# Altium schematic symbol library Induct.SchLib: 125 symbols
Pins are listed as number, name and electrical type; pins without a type are passive.

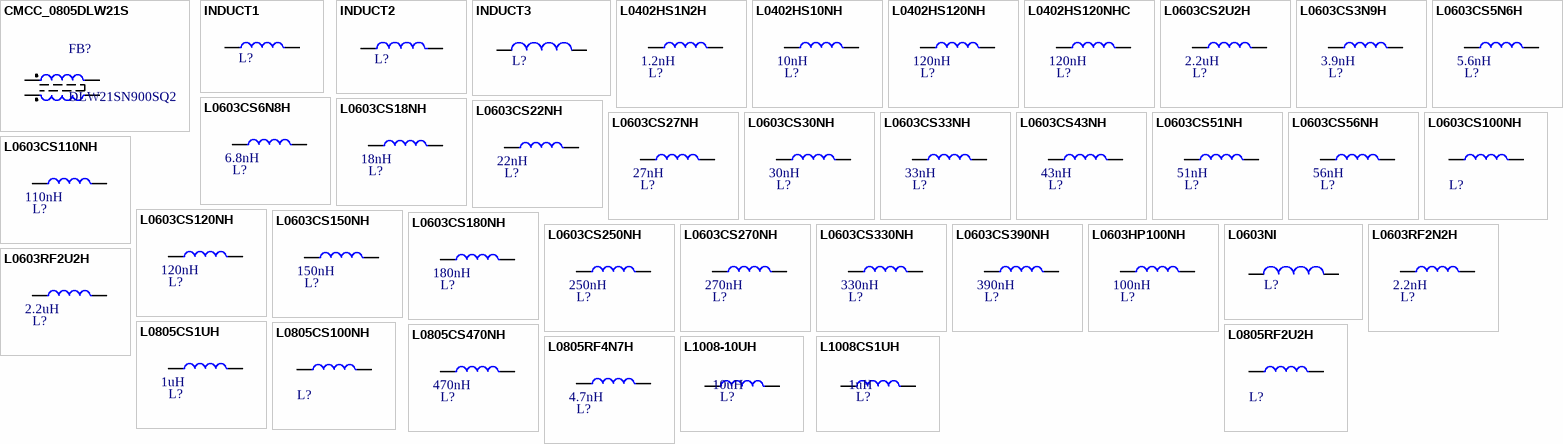
[diagram p0: symbols CMCC_0805DLW21S to L1008CS1UH]

## CMCC_0805DLW21S
designator FB?, comment DLW21SN900SQ2
Chip Common Mode Choke Coils 0805; Manufacturer: Murata, Farnell; Manufacturer No: DLW21SN900SQ2, 1515594; Comment2: 90R 330mA 50V 10MR; Sort: 342; Tech: SMDR; Package: Chip Coil 0805; Price: 0
signal-integrity model Model Name (Model Description)
footprint CCMCC0805 (Chip Common Mode Choke Coil 0805)
pins: 1, 2, 3, 4

## INDUCT1
designator L?, comment 10uH  (value not drawn)
General purpose inductor; Sort: 310; Tech: SMDR; Manufacturer: *; Manufacturer No: *; Price: 0
signal-integrity model Model Name (Model Description)
footprint LC0402-1 (Chip inductor 0402)
footprint LC0603-1 (Chip  inductor  0603 (1608))
footprint LC0805-1 (Chip inductor  0805)
pins: 1, 2

## INDUCT2
designator L?, comment 10uH  (value not drawn)
General purpose inductor; Sort: 310; Tech: SMDR; Manufacturer: *; Manufacturer No: *; Comment2: 10uH; Price: 0
signal-integrity model Model Name (Model Description)
footprint RC0805-1 (Chip upor 0805)
pins: 1, 2

## INDUCT3
designator L?, comment 10uH  (value not drawn)
General purpose inductor; Sort: 310; Tech: SMDR; Manufacturer: *; Manufacturer No: *; Comment2: 10uH; Price: 0
signal-integrity model Model Name (Model Description)
footprint RC0805-1 (Chip upor 0805)
pins: 1, 2

## L0402HS1N2H
designator L?, comment 1.2nH
RF chip inductor; Manufacturer: Murata; Manufacturer No: LQG15HS1N2S02; Comment2: 25% 300mA 0.09R; Sort: 310; Tech: SMDR; Package: Chip Inductor 0402; Price: 0
signal-integrity model Model Name (Model Description)
footprint LC0402-1 (Chip inductor 0402)
footprint LC0402RF1 (Chip inductor 0402 RF pad)
pins: 1, 2

## L0402HS10NH
designator L?, comment 10nH
RF chip inductor; Manufacturer: Murata; Manufacturer No: LQG15HS10NJ02; Comment2: 5% 300mA 0.26R Q8; Sort: 310; Tech: SMDR; Package: Chip Inductor 0402; Price: 0
signal-integrity model Model Name (Model Description)
footprint LC0402-1 (Chip inductor 0402)
footprint LC0402RF1 (Chip inductor 0402 RF pad)
pins: 1, 2

## L0402HS120NH
designator L?, comment 120nH
RF chip inductor; Manufacturer: Murata; Manufacturer No: LQG15HSR12JO2; Comment2: 5% 150mA 1.3R; Sort: 310; Tech: SMDR; Package: Chip Inductor 0402; Price: 0
signal-integrity model Model Name (Model Description)
footprint LC0402-1 (Chip inductor 0402)
footprint LC0402RF1 (Chip inductor 0402 RF pad)
pins: 1, 2

## L0402HS120NHC
designator L?, comment 120nH
RF chip inductor; Manufacturer: Coilcraft; Manufacturer No: 0402CS-R12X_L_; Comment2: 5% 50mA 2.2R 1.9GHz SRF; Sort: 310; Tech: SMDR; Package: Chip Inductor 0402; Price: 0
signal-integrity model Model Name (Model Description)
footprint LC0402-1 (Chip inductor 0402)
footprint LC0402RF1 (Chip inductor 0402 RF pad)
pins: 1, 2

## L0603CS2U2H
designator L?, comment 2.2uH
RF inductor 0603; Manufacturer: Murata; Manufacturer No: LQM18FN2R2M00B; Comment2: 5% 120mA 0.4R; Sort: 310; Tech: SMDR; Package: Chip Inductor 0603; Price: 0
signal-integrity model Model Name (Model Description)
footprint LC0603-1 (Chip  inductor  0603 (1608))
pins: 1, 2

## L0603CS3N9H
designator L?, comment 3.9nH
RF chip inductor; Manufacturer: Coilcraft; Manufacturer No: 0603CS-3N9XJLU; Comment2: 5% 700mA 0.08R; Sort: 310; Tech: SMDR; Package: Chip Inductor 0603; Price: 0
signal-integrity model Model Name (Model Description)
footprint LC0603-1 (Chip  inductor  0603 (1608))
pins: 1, 2

## L0603CS5N6H
designator L?, comment 5.6nH
RF chip inductor; Manufacturer: Coilcraft; Manufacturer No: 0603CS-5N6XJLU; Comment2: 5% 700mA 0.12R; Sort: 310; Tech: SMDR; Package: Chip Inductor 0603; Price: 0
signal-integrity model Model Name (Model Description)
footprint LC0603-1 (Chip  inductor  0603 (1608))
pins: 1, 2

## L0603CS6N8H
designator L?, comment 6.8nH
RF chip inductor; Manufacturer: Coilcraft; Manufacturer No: 0603CS-6N8XJLU; Comment2: 5% 700mA 0.17R; Sort: 310; Tech: SMDR; Package: Chip Inductor 0603; Price: 0
signal-integrity model Model Name (Model Description)
footprint LC0603-1 (Chip  inductor  0603 (1608))
pins: 1, 2

## L0603CS18NH
designator L?, comment 18nH
RF chip inductor; Manufacturer: Coilcraft; Manufacturer No: 0603CS-18NXJLU; Comment2: 5% 700mA 0.17R; Sort: 310; Tech: SMDR; Package: Chip Inductor 0603; Price: 0
signal-integrity model Model Name (Model Description)
footprint LC0603-1 (Chip  inductor  0603 (1608))
pins: 1, 2

## L0603CS22NH
designator L?, comment 22nH
RF inductor 0603; Manufacturer: Coilcraft; Manufacturer No: 0603CS-22NXJLU; Comment2: 5% 700mA 0.19R; Sort: 310; Tech: SMDR; Package: Chip Inductor 0603; Price: 0
signal-integrity model Model Name (Model Description)
footprint LC0603-1 (Chip  inductor  0603 (1608))
pins: 1, 2

## L0603CS27NH
designator L?, comment 27nH
RF inductor 0603; Manufacturer: Coilcraft; Manufacturer No: 0603CS-27NXJLU; Comment2: 5% 600mA 0.22R; Sort: 310; Tech: SMDR; Package: Chip Inductor 0603; Price: 0
signal-integrity model Model Name (Model Description)
footprint LC0603-1 (Chip  inductor  0603 (1608))
pins: 1, 2

## L0603CS30NH
designator L?, comment 30nH
RF inductor 0603; Manufacturer: Coilcraft; Manufacturer No: 0603CS-30NXJLU; Comment2: 5% 600mA 0.22R; Sort: 310; Tech: SMDR; Package: Chip Inductor 0603; Price: 0
signal-integrity model Model Name (Model Description)
footprint LC0603-1 (Chip  inductor  0603 (1608))
pins: 1, 2

## L0603CS33NH
designator L?, comment 33nH
RF inductor 0603; Manufacturer: Coilcraft; Manufacturer No: 0603CS-33NXJLU; Comment2: 5% 600mA 0.22R; Sort: 310; Tech: SMDR; Package: Chip Inductor 0603; Price: 0
signal-integrity model Model Name (Model Description)
footprint LC0603-1 (Chip  inductor  0603 (1608))
pins: 1, 2

## L0603CS43NH
designator L?, comment 43nH
RF inductor 0603; Manufacturer: Coilcraft; Manufacturer No: 0603CS-43NXJLU; Comment2: 5% 600mA 0.28R; Sort: 310; Tech: SMDR; Package: Chip Inductor 0603; Price: 0
signal-integrity model Model Name (Model Description)
footprint LC0603-1 (Chip  inductor  0603 (1608))
pins: 1, 2

## L0603CS51NH
designator L?, comment 51nH
RF inductor 0603; Manufacturer: Coilcraft; Manufacturer No: 0603CS-51NXJLU; Comment2: 5% 600mA 0.22R; Sort: 310; Tech: SMDR; Package: Chip Inductor 0603; Price: 0
signal-integrity model Model Name (Model Description)
footprint LC0603-1 (Chip  inductor  0603 (1608))
pins: 1, 2

## L0603CS56NH
designator L?, comment 56nH
RF inductor 0603; Manufacturer: Coilcraft; Manufacturer No: 0603CS-56NXJLU; Comment2: 5% 600mA 0.31R; Sort: 310; Tech: SMDR; Package: Chip Inductor 0603; Price: 0
signal-integrity model Model Name (Model Description)
footprint LC0603-1 (Chip  inductor  0603 (1608))
pins: 1, 2

## L0603CS100NH
designator L?, comment 100nH  (value not drawn)
RF inductor 0603; Manufacturer: Wurth Elektronik; Manufacturer No: 7447962; Comment2: 50mA 0.5R; Sort: 310; Tech: SMDR; Package: Chip Inductor 0603; Price: 0
signal-integrity model Model Name (Model Description)
footprint RC0603-1 (Chip upor 0603)
pins: 1, 2

## L0603CS110NH
designator L?, comment 110nH
RF inductor 0603; Manufacturer: Coilcraft; Manufacturer No: 0603CS-R11XJLU; Comment2: 5% 300mA 0.61R; Sort: 310; Tech: SMDR; Package: Chip Inductor 0603; Price: 0
signal-integrity model Model Name (Model Description)
footprint LC0603-1 (Chip  inductor  0603 (1608))
footprint RC0603-1
pins: 1, 2

## L0603CS120NH
designator L?, comment 120nH
RF inductor 0603; Manufacturer: Coilcraft; Manufacturer No: 0603CS-R12XJLU; Comment2: 5% 300mA 0.65R; Sort: 310; Tech: SMDR; Package: Chip Inductor 0603; Price: 0
signal-integrity model Model Name (Model Description)
footprint LC0603-1 (Chip  inductor  0603 (1608))
footprint RC0603-1
pins: 1, 2

## L0603CS150NH
designator L?, comment 150nH
RF inductor 0603; Manufacturer: Coilcraft; Manufacturer No: 0603CS-R15XJLU; Comment2: 5% 280mA 0.92R; Sort: 310; Tech: SMDR; Package: Chip Inductor 0603; Price: 0
signal-integrity model Model Name (Model Description)
footprint LC0603-1 (Chip  inductor  0603 (1608))
footprint RC0603-1
pins: 1, 2

## L0603CS180NH
designator L?, comment 180nH
RF inductor 0603; Manufacturer: Coilcraft; Manufacturer No: 0603CS-R18XJLU; Comment2: 5% 240mA 1.25R; Sort: 310; Tech: SMDR; Package: Chip Inductor 0603; Price: 0
signal-integrity model Model Name (Model Description)
footprint LC0603-1 (Chip  inductor  0603 (1608))
pins: 1, 2

## L0603CS250NH
designator L?, comment 250nH
RF inductor 0603; Manufacturer: Coilcraft; Manufacturer No: 0603CS-R25XJLU; Comment2: 5% 120mA 3.55R; Sort: 310; Tech: SMDR; Package: Chip Inductor 0603; Price: 0
signal-integrity model Model Name (Model Description)
footprint LC0603-1 (Chip  inductor  0603 (1608))
pins: 1, 2

## L0603CS270NH
designator L?, comment 270nH
RF inductor 0603; Manufacturer: Coilcraft; Manufacturer No: 0603CS-R27XJLU; Comment2: 5% 170mA 2.3R; Sort: 310; Tech: SMDR; Package: Chip Inductor 0603; Price: 0
signal-integrity model Model Name (Model Description)
footprint LC0603-1 (Chip  inductor  0603 (1608))
pins: 1, 2

## L0603CS330NH
designator L?, comment 330nH
RF inductor 0603; Manufacturer: Coilcraft; Manufacturer No: 0603CS-R33XJLU; Comment2: 5% 100mA 3.9R; Sort: 310; Tech: SMDR; Package: Chip Inductor 0603; Price: 0
signal-integrity model Model Name (Model Description)
footprint LC0603-1 (Chip  inductor  0603 (1608))
pins: 1, 2

## L0603CS390NH
designator L?, comment 390nH
RF inductor 0603; Manufacturer: Coilcraft; Manufacturer No: 0603CS-R39XJLU; Comment2: 5% 100mA 4.4R; Sort: 310; Tech: SMDR; Package: Chip Inductor 0603; Price: 0
signal-integrity model Model Name (Model Description)
footprint LC0603-1 (Chip  inductor  0603 (1608))
pins: 1, 2

## L0603HP100NH
designator L?, comment 100nH
RF inductor 0603; Manufacturer: Coilcraft; Manufacturer No: 0603HP-R10X_L_; Comment2: 5.2% 470mA 0.54R; Sort: 310; Tech: SMDR; Package: Chip Inductor 0603; Price: 0
signal-integrity model Model Name (Model Description)
footprint RC0603-2 (Chip inductor 0603)
pins: 1, 2

## L0603NI
designator L?, comment NI  (value not drawn)
RF inductor 0603; Manufacturer: Coilcraft; Manufacturer No: 0603CS-??; Sort: 310; Tech: SMDR; Package: Chip Inductor 0603; Price: 0
signal-integrity model Model Name (Model Description)
footprint LC0603-1 (Chip  inductor  0603 (1608))
pins: 1, 2

## L0603RF2N2H
designator L?, comment 2.2nH
RF chip inductor; Manufacturer: Murata, Farnell; Manufacturer No: LQG18HN2N2S00D,  1515384; Comment2: 13% 500mA 0.1R; Sort: 310; Tech: SMDR; Package: Chip Inductor 0603; Price: 0
signal-integrity model Model Name (Model Description)
footprint LC0603-1 (Chip  inductor  0603 (1608))
pins: 1, 2

## L0603RF2U2H
designator L?, comment 2.2uH
RF inductor 0603; Manufacturer: Murata; Manufacturer No: LQM18FN2R2M00B; Comment2: 5% 120mA 0.4R; Sort: 310; Tech: SMDR; Package: Chip Inductor 0603; Price: 0
signal-integrity model Model Name (Model Description)
footprint LC0603-1 (Chip  inductor  0603 (1608))
pins: 1, 2

## L0805CS1UH
designator L?, comment 1uH
RF inductor 0805; Manufacturer: Wurth Elektronik; Manufacturer No: 7447905; Comment2: 50mA 0.4R; Sort: 310; Tech: SMDR; Package: Chip Inductor 0805; Price: 0
signal-integrity model Model Name (Model Description)
footprint LC0805-1 (Chip inductor  0805)
pins: 1, 2

## L0805CS100NH
designator L?, comment 100nH  (value not drawn)
RF inductor 0805; Manufacturer: Wurth Elektronik; Manufacturer No: 74479021; Comment2: 250mA 0.2R; Sort: 310; Tech: SMDR; Package: Chip Inductor 0805; Price: 0
signal-integrity model Model Name (Model Description)
footprint LC0805-1 (Chip inductor  0805)
pins: 1, 2

## L0805CS470NH
designator L?, comment 470nH
RF inductor 0805; Manufacturer: Wurth Elektronik; Manufacturer No: 74479032; Comment2: 200mA 0.6R; Sort: 310; Tech: SMDR; Package: Chip Inductor 0805; Price: 0
signal-integrity model Model Name (Model Description)
footprint LC0805-1 (Chip inductor  0805)
pins: 1, 2

## L0805RF2U2H
designator L?, comment 2.2uH  (value not drawn)
RF chip inductor; Manufacturer: Kemet, Farnell; Manufacturer No: L0805C2R2MDWIT,  1457856; Comment2: 20% 0.64A 0.33R; Sort: 310; Tech: SMDR; Package: Chip Inductor 0805; Price: 0
signal-integrity model Model Name (Model Description)
footprint LC0805-1 (Chip inductor  0805)
pins: 1, 2

## L0805RF4N7H
designator L?, comment 4.7nH
RF chip inductor; Manufacturer: AVX, Farnell; Manufacturer No: L08054R7DESTR,  1100444; Comment2: 10% 1.5A 0.1R; Sort: 310; Tech: SMDR; Package: Chip Inductor 0805; Price: 0
signal-integrity model Model Name (Model Description)
footprint LC0805-1 (Chip inductor  0805)
pins: 1, 2

## L1008-10UH
designator L?, comment 10uH
RF chip inductor; Manufacturer: Panasonic, Farnell; Manufacturer No: ELJFC100JF, 1198424; Comment2: 5% 80mA 3R5  Q25; Sort: 310; Tech: SMDR; Package: Chip Inductor 1008; Price: 0
signal-integrity model Model Name (Model Description)
footprint LC1008-2 (Chip inductor  1008 2.84x2.73mm)
pins: 1, 2

## L1008CS1UH
designator L?, comment 1uH
RF chip inductor; Manufacturer: Coilcraft; Manufacturer No: 1008CS-102XJLB; Comment2: 5% 370mA 1.75R Q35; Sort: 310; Tech: SMDR; Package: Chip Inductor 1008; Price: 0
signal-integrity model Model Name (Model Description)
footprint LC1008-2 (Chip inductor  1008 2.84x2.73mm)
pins: 1, 2

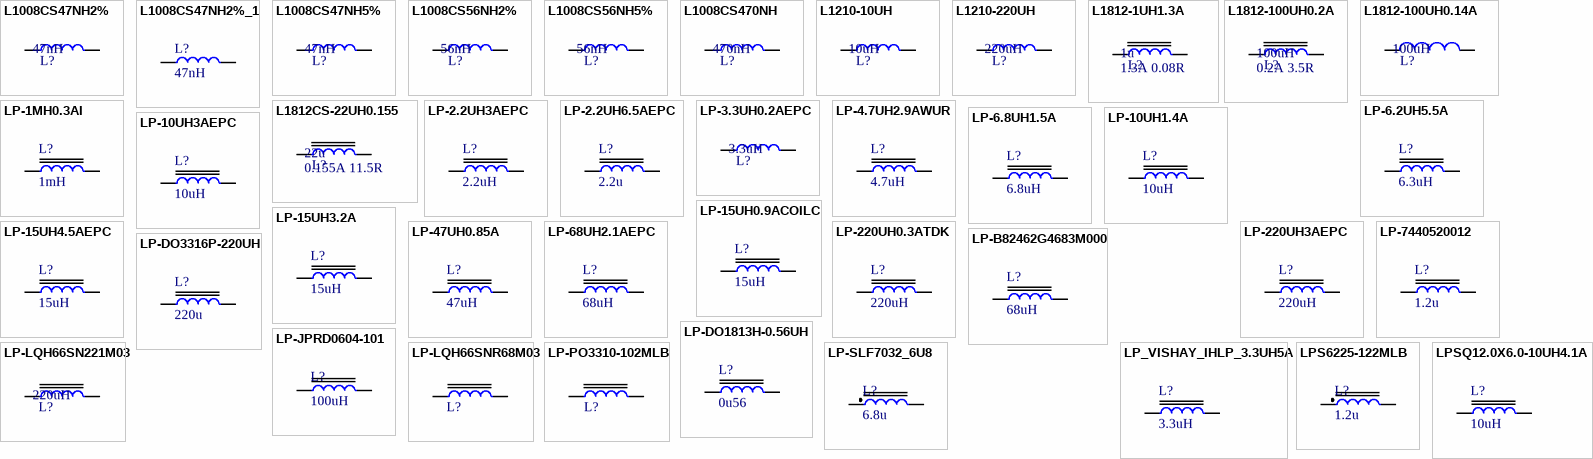
[diagram p1: symbols L1008CS47NH2% to LPSQ12.0X6.0-10UH4.1A]

## L1008CS47NH2%
designator L?, comment 47nH
RF inductor 1008; Manufacturer: Coilcraft; Manufacturer No: 1008CS-470XGLB; Comment2: 2% 1A 0.16R; Sort: 310; Tech: SMDR; Package: Chip Inductor 1008; Price: 0
signal-integrity model Model Name (Model Description)
footprint LC1008-2 (Chip inductor  1008 2.84x2.73mm)
pins: 1, 2

## L1008CS47NH2%_1
designator L?, comment 47nH
RF inductor 1008; Manufacturer: Coilcraft; Manufacturer No: 1008CS-470XGLB; Comment2: 2% 1A 0.16R; Sort: 310; Tech: SMDR; Package: Chip Inductor 1008; Price: 0
signal-integrity model Model Name (Model Description)
footprint LC1008-2 (Chip inductor  1008 2.84x2.73mm)
pins: 1, 2

## L1008CS47NH5%
designator L?, comment 47nH
RF inductor 1008; Manufacturer: Coilcraft; Manufacturer No: 1008CS-470XJLB; Comment2: 5% 1A 0.16R; Sort: 310; Tech: SMDR; Package: Chip Inductor 1008; Price: 0
signal-integrity model Model Name (Model Description)
footprint LC1008-2 (Chip inductor  1008 2.84x2.73mm)
pins: 1, 2

## L1008CS56NH2%
designator L?, comment 56nH
RF inductor 1008; Manufacturer: Coilcraft; Manufacturer No: 1008CS-560XGLB; Comment2: 2% 1A 0.18R; Sort: 310; Tech: SMDR; Package: Chip Inductor 1008; Price: 0
signal-integrity model Model Name (Model Description)
footprint LC1008-2 (Chip inductor  1008 2.84x2.73mm)
pins: 1, 2

## L1008CS56NH5%
designator L?, comment 56nH
RF inductor 1008; Manufacturer: Coilcraft; Manufacturer No: 1008CS-560XJLB; Comment2: 5% 1A 0.18R; Sort: 310; Tech: SMDR; Package: Chip Inductor 1008; Price: 0
signal-integrity model Model Name (Model Description)
footprint LC1008-2 (Chip inductor  1008 2.84x2.73mm)
pins: 1, 2

## L1008CS470NH
designator L?, comment 470nH
RF inductor 1008; Manufacturer: Coilcraft; Manufacturer No: 1008CS-471XJLB; Comment2: 5% 470mA 1.19R; Sort: 310; Tech: SMDR; Package: Chip Inductor 1008; Price: 0
signal-integrity model Model Name (Model Description)
footprint LC1008-2 (Chip inductor  1008 2.84x2.73mm)
pins: 1, 2

## L1210-10UH
designator L?, comment 10uH
RF chip inductor; Manufacturer: Murata, Farnell; Manufacturer No: LQH32CN100K33, 9522204; Comment2: 10% 450mA 0R3 Q35; Sort: 310; Tech: SMDR; Package: Chip Inductor 1008; Price: 0
signal-integrity model Model Name (Model Description)
footprint LP1210-1 (Chip capacitor 1210 (3225))
pins: 1, 2

## L1210-220UH
designator L?, comment 220uH
RF chip inductor; Manufacturer: Murata, Farnell; Manufacturer No: LQH32CN221K23, 9522239; Comment2: 10% 70mA 8R4; Sort: 310; Tech: SMDR; Package: Chip Inductor 1008; Price: 0
signal-integrity model Model Name (Model Description)
footprint LP1210-1 (Chip capacitor 1210 (3225))
pins: 1, 2

## L1812-1UH1.3A
designator L?, comment 1u  Comment2: 1.3A 0.08R
High current inductor SMD 1812 4.5x3.2x3,2mm; Manufacturer: Epcos, Farnell; Manufacturer No: B82432T1102K, 4826681; Sort: 310; Tech: SMDR; Package: Chip Inductor 1812 H3,2mm; Price: 0
signal-integrity model Model Name (Model Description)
footprint LC1812-32 (Chip capacitor 1812 (4532) 4.5x3.2x3.2mm)
pins: 1, 2

## L1812-100UH0.2A
designator L?, comment 100uH  Comment2: 0.2A 3.5R
High current inductor SMD 1812 4.5x3.2x3,2mm; Manufacturer: Epcos, Farnell; Manufacturer No: B82432T1104K, 8808503; Sort: 310; Tech: SMDR; Package: Chip Inductor 1812 H3,2mm; Price: 0
signal-integrity model Model Name (Model Description)
footprint LC1812-32 (Chip capacitor 1812 (4532) 4.5x3.2x3.2mm)
pins: 1, 2

## L1812-100UH0.14A
designator L?, comment 100uH
General purpose inductor SMD 1812; Manufacturer: BURKLIN; Manufacturer No: 76D9258; Comment2: 0.145A 4.7R; Sort: 310; Tech: SMDR; Price: 0
signal-integrity model Model Name (Model Description)
footprint LC1812-1 (Chip capacitor 1812 (4532))
pins: 1, 2

## L1812CS-22UH0.155
designator L?, comment 22u  Comment2: 0.155A 11.5R
General Purpose Inductor SMD 1812 4.5x3.2x3,2mm; Manufacturer: Coilcraft; Manufacturer No: 1812CS-223X_LB; Sort: 310; Tech: SMDR; Package: Chip Inductor 1812 H3,2mm; Price: 0
signal-integrity model Model Name (Model Description)
footprint LC1812-CS (Chip Inductor, 2-Leads, Body 4,9x3,8mm, IPC Medium Density)
pins: 1, 2

## LP-1MH0.3AI
designator L?, comment 1mH
Power inductor; Manufacturer: Wuerth Elektronik; Manufacturer No: 744772102; Comment2: 0.3A  2.9R; Sort: 320; Tech: SMDR; Package: Pow Inductor; Price: 0
signal-integrity model Model Name (Model Description)
footprint LP1MH0.3AV
pins: 1, 2

## LP-2.2UH3AEPC
designator L?, comment 2.2uH
Power inductor 7.3x7.3x4.5mm; Manufacturer: Epcos; Manufacturer No: B82472G6222M; Comment2: 3A; Sort: 320; Tech: SMDR; Price: 0
signal-integrity model Model Name (Model Description)
footprint L7.3X7.3X4.5 (SMD inductor 7.3x7.3x4.5mm shielded)
pins: 1, 2

## LP-2.2UH6.5AEPC
designator L?, comment 2.2u
Power inductor 10x10mm; Manufacturer: Epcos, Farnell; Manufacturer No: B82464-G4222-M, 7429401; Comment2: 6.5A 0.01R; Sort: 320; Tech: SMDR; Package: Inductor Power 10x10mm; Price: 0
signal-integrity model Model Name (Model Description)
footprint L10x10x4.8 (Power inductor 10x10x4.8mm EPCOS)
pins: 1, 2

## LP-3.3UH0.2AEPC
designator L?, comment 3.3uH
RF chip inductor; Manufacturer: Epcos, Farnell; Manufacturer No: B82422A1332+100, 1644343; Comment2: 10% 200mA 1R2 Q27; Sort: 310; Tech: SMDR; Package: Chip Inductor 1008; Price: 0
signal-integrity model Model Name (Model Description)
footprint LP1210-1 (Chip capacitor 1210 (3225))
pins: 1, 2

## LP-4.7UH2.9AWUR
designator L?, comment 4.7uH
Power inductor 7.3x7.3x3.2mm; Manufacturer: Wurth, Farnell; Manufacturer No: 7447789004, 1635969; Comment2: 2.9A 0.033R; Sort: 320; Tech: SMDR; Price: 0
footprint L7.3X7.3X3.2 (SMD inductor 7.3x7.3x3.2mm shielded)
pins: 1, 2

## LP-6.2UH5.5A
designator L?, comment 6.3uH
Power inductor 10x10x3.8mm; Manufacturer: Wurth Elektronik; Manufacturer No: 7447797620; Comment2: 5.5A 25.mR 6.2uH; Sort: 320; Tech: SMDR; Price: 0
signal-integrity model Model Name (Model Description)
footprint LP10X10X3.2 (Power inductor 10x10x3.2mm)
pins: 1, 2

## LP-6.8UH1.5A
designator L?, comment 6.8uH
Power inductor 4.8x4.8x1.8mm WE-TPC; Manufacturer: Wurth Elektronik; Manufacturer No: 744042006; Comment2: 1.5A 95mR 6.8uH; Sort: 320; Tech: SMDR; Price: 0
signal-integrity model Model Name (Model Description)
footprint LP4.8X4.8X1.8 (SMD Power inductor 4.8x4.8x1.8mm shielded)
pins: 1, 2

## LP-10UH1.4A
designator L?, comment 10uH
Power inductor WE-TPC type LH; Manufacturer: Wurth Elektronik; Manufacturer No: 744053100; Comment2: 0.07Rdc 1.4A Isat 10uH; Sort: 320; Tech: SMDR; Package: WE-TPC-LH; Price: 0
signal-integrity model Model Name (Model Description)
footprint Model Name (Footprint not found)
footprint LP5.8X5.8X2.8 (SMD Power inductor 5.8x5.8x2.8mm shielded)
pins: 1, 2

## LP-10UH3AEPC
designator L?, comment 10uH
Power inductor 7.3x7.3x4.5mm; Manufacturer: Epcos; Manufacturer No: B82472G6103M000; Comment2: 1.4A 0.053R; Sort: 320; Tech: SMDR; Price: 0
signal-integrity model Model Name (Model Description)
footprint L7.3X7.3X4.5 (SMD inductor 7.3x7.3x4.5mm shielded)
pins: 1, 2

## LP-15UH0.9ACOILC
designator L?, comment 15uH
Power inductor DO1608; Manufacturer: Coilcraft; Manufacturer No: DO1608C-153ML; Comment2: 0.9A; Sort: 320; Tech: SMDR; Package: DO1608; Price: 0
signal-integrity model Model Name (Model Description)
footprint Model Name (Footprint not found)
footprint LDO1608
pins: 1, 2

## LP-15UH3.2A
designator L?, comment 15uH
Power inductor 10x10x3.8mm; Manufacturer: Wurth Elektronik; Manufacturer No: 744066150; Comment2: 3.2A 40mR 15uH; Sort: 320; Tech: SMDR; Price: 0
signal-integrity model Model Name (Model Description)
footprint LP10X10X3.2 (Power inductor 10x10x3.2mm)
pins: 1, 2

## LP-15UH4.5AEPC
designator L?, comment 15uH
Power inductor 12.8x12.8x8mm; Manufacturer: Epcos; Manufacturer No: B82477G4153M; Comment2: 4.5A; Sort: 320; Tech: SMDR; Price: 0
signal-integrity model Model Name (Model Description)
footprint L12.8X12.8X8 (Power inductor 12.8x12.8x8mm EPCOS)
pins: 1, 2

## LP-47UH0.85A
designator L?, comment 47uH
Power inductor 7.3x7.3x3.2mm WE-PD; Manufacturer: Wurth Elektronik; Manufacturer No: 744778147; Comment2: 0.85A  0.315R; Sort: 320; Tech: SMDR; Package: 7.3x7.3x3.2mm; Price: 0
signal-integrity model Model Name (Model Description)
footprint LP7.3X7.3X3.2 (SMD Power inductor 7.3x7.3x3.2mm shielded)
pins: 1, 2

## LP-68UH2.1AEPC
designator L?, comment 68uH
Power inductor 12.8x12.8x8mm; Manufacturer: Epcos; Manufacturer No: B82477G4683M; Comment2: 2.1A  0.12Ohm; Sort: 320; Tech: SMDR; Package: 12.8x12.8x8mm; Price: 0
signal-integrity model Model Name (Model Description)
footprint L12.8X12.8X8 (Power inductor 12.8x12.8x8mm EPCOS)
pins: 1, 2

## LP-220UH0.3ATDK
designator L?, comment 220uH
Power inductor 7.3x7.3x4.5mm; Manufacturer: TDK; Manufacturer No: SLF7045T-221MR33-PF; Comment2: 0.33A 0.52R; Sort: 320; Tech: SMDR; Price: 0
signal-integrity model Model Name (Model Description)
footprint L7X7X4.5 (SMD inductor 7x7x4.5mm shielded)
pins: 1, 2

## LP-220UH3AEPC
designator L?, comment 220uH
Power inductor 7.3x7.3x4.5mm; Manufacturer: Epcos; Manufacturer No: B82472G6224M000; Comment2: 0.36A 0.88R; Sort: 320; Tech: SMDR; Price: 0
signal-integrity model Model Name (Model Description)
footprint L7.3X7.3X4.5 (SMD inductor 7.3x7.3x4.5mm shielded)
pins: 1, 2

## LP-7440520012
designator L?, comment 1.2u
Power inductor 5.8x5.8x1.8mm, Type L; Manufacturer: Wurth Elektronik; Manufacturer No: 7440520012; Comment2: 3A, 0.02R, 1.2u at 0.1 MHz; Sort: 320; Tech: SMDR; Package: Pow Induct 5.8x5.8x1.8mm; Price: 0
signal-integrity model Model Name (Model Description)
footprint LP5.8X5.8X1.8 (SMD Power inductor 5.8x5.8x1.8mm shielded)
pins: 1, 2

## LP-B82462G4683M000
designator L?, comment 68uH
Power inductor 6.3x6.3x3.0mm; Manufacturer: Epcos; Manufacturer No: B82462G4683M000; Comment2: 0.65A, 0.41R fl 0.1 MHz; Sort: 320; Tech: SMDR; Price: 0
signal-integrity model Model Name (Model Description)
footprint LP6.3X6.3X3.0 (SMD Power inductor 6.3x6.3x3.0mm shielded)
pins: 1, 2

## LP-DO1813H-0.56UH
designator L?, comment 0u56
Power inductor DO1813H; Manufacturer: Coilcraft; Manufacturer No: DO1813H-561ML; Comment2: 6A 0.01R; Sort: 320; Tech: SMDR; Package: Pow Inductor DO1813H; Price: 0
signal-integrity model Model Name (Model Description)
footprint LDO1813H (Power Inductor 9x6x5mm)
pins: 1, 2

## LP-DO3316P-220UH
designator L?, comment 220u
Power inductor DO3316P; Manufacturer: Coilcraft; Manufacturer No: DO3316P-224 L; Comment2: 0.8A 0.61R; Sort: 320; Tech: SMDR; Package: Pow Inductor DO3316P; Price: 0
signal-integrity model Model Name (Model Description)
footprint LDO3316 (DO3316 power inductor smd)
pins: 1, 2

## LP-JPRD0604-101
designator L?, comment 100uH
SMD power inductor shielded; Manufacturer: Jantek TW; Manufacturer No: JPRD0604-101M; Comment2: 0.65A 0.36R; Sort: 310; Tech: SMDR; Price: 0
signal-integrity model Model Name (Model Description)
footprint L-JPRD0604 (SMD inductor 6.7x6.7x4mm shielded)
pins: 1, 2

## LP-LQH66SN221M03
designator L?, comment 220uH
Inductor Large Current Size 2525; Manufacturer: Murata; Manufacturer No: LQH66SN221M03; Comment2: 0.35A 0.79Rdc 20%; Sort: 310; Tech: SMDR; Package: Inductor Chip 2525; Price: 0
signal-integrity model Model Name (Model Description)
footprint LC2525-1 (Chip capacitor 6.3x6.3x4.7mm)
footprint LC0603-1 (Chip  inductor  0603 (1608))
footprint LC0805-1 (Chip inductor  0805)
pins: 1, 2

## LP-LQH66SNR68M03
designator L?, comment 0u68  (value not drawn)
Inductor Large Current Size 2525; Manufacturer: Murata; Manufacturer No: LQH66SNR68M03; Comment2: 5.3A 0.010Rdc 20%; Sort: 310; Tech: SMDR; Package: Inductor Chip 2525; Price: 0
signal-integrity model Model Name (Model Description)
footprint LC2525-1 (Chip capacitor 6.3x6.3x4.7mm)
footprint LC0603-1 (Chip  inductor  0603 (1608))
footprint LC0805-1 (Chip inductor  0805)
pins: 1, 2

## LP-PO3310-102MLB
designator L?, comment LPO3310-102  (value not drawn)
Low profile inductor 1uH 1.6A; Manufacturer: Coilcraft; Manufacturer No: LPO3310-102MLB; Comment2: 1uH 1.6A 0.076R; Sort: 310; Tech: SMDR; Package: LPO3310; Price: 0
signal-integrity model Model Name (Model Description)
footprint LPO3310 (SMD inductor 4.1x3.3x1mm shielded)
pins: 1, 2

## LP-SLF7032_6U8
designator L?, comment 6.8u
Power inductor; Manufacturer: TDK; Manufacturer No: SLF7032T-6R8M1R6; Comment2: 1.6A 0.041R; Sort: 310; Tech: SMDR; Price: 0
signal-integrity model Model Name (Model Description)
footprint SLF7032_1 (SMD Inductor for power line)
pins: 1, 2

## LP_VISHAY_IHLP_3.3UH5A
designator L?, comment 3.3uH
Power inductor shielded 7x6.5x2.4mm IHLP; Manufacturer: Vishay, Farnell; Manufacturer No: IHLP2525BDER3R3M01, 1741356; Comment2: 5A 51mR; Sort: 320; Tech: SMDR; Package: LP 7x6.5x2.4mm; Price: 2.11
signal-integrity model Model Name (Model Description)
footprint LP7X6.6X2.4 (SMD Power inductor 7x6.5x2.4mm shielded)
pins: 1, 2

## LPS6225-122MLB
designator L?, comment 1.2u
Power inductor; Manufacturer: Coilcraft; Manufacturer No: LPS6225-122MLB; Comment2: 5.4A 0.04R; Sort: 310; Tech: SMDR; Price: 0
signal-integrity model Model Name (Model Description)
footprint LPS6225 (Power inductor 6x6x2.4mm)
pins: 1, 2

## LPSQ12.0X6.0-10UH4.1A
designator L?, comment 10uH
Power inductor 12.0x12.0x6.0mm WE-PD; Manufacturer: Wuerth Elektronik; Manufacturer No: 74477110; Comment2: 4.1A 5.6Asat 0.025R 20%; Sort: 320; Tech: SMDR; Package: Induct 12.0X12.0X6.0mm; Price: 1.82; RevDate: 13.02.09
signal-integrity model Model Name (Model Description)
footprint LP12.0X12.0X6 (Power inductor 12.0x12.0x6.0mm Wuerth WE-PD L)
pins: 1, 2

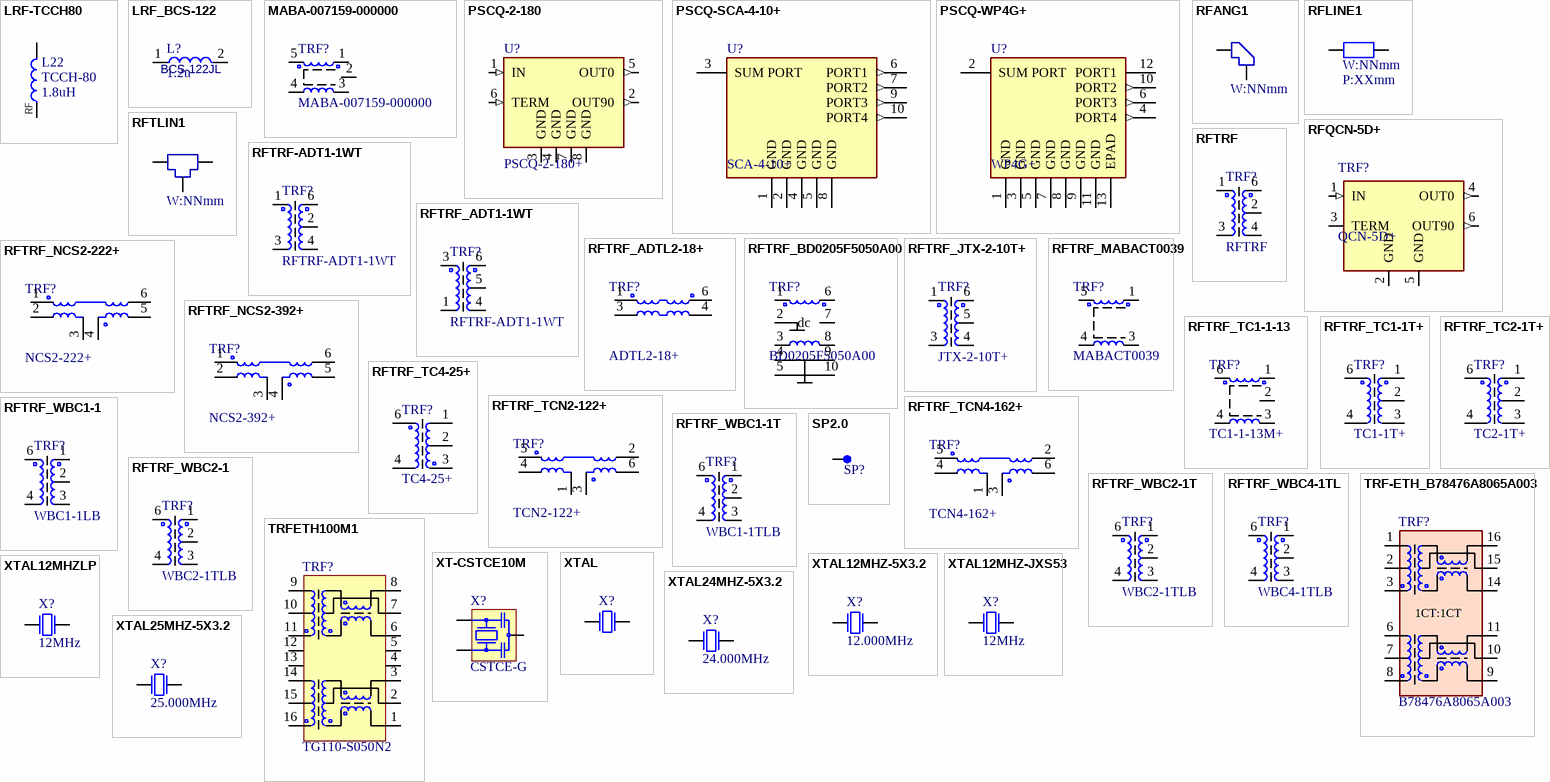
[diagram p2: symbols LRF-TCCH80 to XTAL25MHZ-5X3.2]

## LRF-TCCH80
designator L22, comment TCCH-80  Comment2: 1.8uH
Wideband RF choke; Manufacturer: MiniCircuits; Manufacturer No: TCCH-80+; Sort: 312; Tech: SMDR; Package: GU1041; Price: 0.8
footprint LGU1041 (RF Choke 3.81x3.81mm 4pin)
pins: 1, 3
text: RF

## LRF_BCS-122
designator L?, comment 1.2u  Manufacturer No: BCS-122JL
Wideband RF choke; Manufacturer: Coilcraft; Sort: 312; Tech: SMDR; Comment2: 0.2A  1.05R; Price: 0.8
footprint LRF-BCS122 (Conical inductor 3.05x2.54x2.8mm)
pins: 1, 2

## MABA-007159-000000
designator TRF?
RF transformator Macom 5pin; Sort: 330; Tech: SMDR; Price: 0
footprint SM-22
pins: 1, 2, 3, 4, 5

## PSCQ-2-180
designator U?, comment PSCQ-2-180+
Power Splitter / Combiner 120-180MHz; Manufacturer: Mini Circuits; Sort: 510; Tech: SMDR; Manufacturer No: PSCQ-2-180+; Package: A01; Price: 0
footprint AO1 (PSCQ-2 Minicircuits tht)
pins: 1 IN (in), 2 OUT90 (out), 3 GND (power), 4 GND (power), 5 OUT0 (out), 6 TERM (in), 7 GND (power), 8 GND (power)

## PSCQ-SCA-4-10+
designator U?, comment SCA-4-10+
Power Splitter / Combiner 4-Way, 50R, 5 MHz to 1000 MHz; Manufacturer: Mini Circuits; Sort: 510; Tech: SMDR; Manufacturer No: SCA-4-10+; Package: DZ943; Price: 0
footprint DZ943
pins: 1 GND (power), 2 GND (power), 3 SUM PORT, 4 GND (power), 5 GND (power), 6 PORT1 (out), 7 PORT2 (out), 8 GND (power), 9 PORT3 (out), 10 PORT4 (out)

## PSCQ-WP4G+
designator U?, comment WP4G+
Power Splitter / Combiner 4-Way, 50R, 1240 MHz to 1660 MHz; Manufacturer: Mini Circuits; Sort: 510; Tech: SMDR; Manufacturer No: WP4G+; Package: DQ1225; Price: 0
footprint DQ1225 (QFN, 12-Leads, Body 3,0x3,0mm (max), Pitch 0,51mm, IPC Medium Density)
pins: 1 GND (power), 2 SUM PORT, 3 GND (power), 4 PORT4 (out), 5 GND (power), 6 PORT3 (out), 7 GND (power), 8 GND (power), 9 GND (power), 10 PORT2 (out), 11 GND (power), 12 PORT1, 13 EPAD (power)

## RFANG1
designator RFA?, comment W:NNmm  (no BOM)
RF line Angle; Sort: 900; Tech: MECH; Price: 0
signal-integrity model Model Name (Model Description)
footprint RFA1.19MM (RF angle 1.19mm wide)
pins: 1, 2

## RFLINE1
designator RFL?, comment W:NNmm  Comment2: P:XXmm  (no BOM)
RF line; Sort: 900; Tech: MECH; Price: 0
signal-integrity model Model Name (Model Description)
footprint RFL1.19MM (RF line 1.19mm wide)
pins: 1, 2

## RFQCN-5D+
designator TRF?, comment QCN-5D+
Power Splitter / Combiner 330-580MHz; Manufacturer: MiniCircuits; Sort: 330; Tech: SMDR; Manufacturer No: QCN-5D+; Package: Chip Filter 1206 6pin; Price: 0
footprint FV1206-6 (Filter chip 1206 6pad)
pins: 1 IN (in), 2 GND (power), 3 TERM, 4 OUT0 (out), 5 GND (power), 6 OUT90 (out)

## RFTLIN1
designator RFT?, comment W:NNmm  (no BOM)
RF line T; Sort: 900; Tech: MECH; Price: 0
signal-integrity model Model Name (Model Description)
footprint RFt1.19MM (RF Tjoin 1.19mm wide)
pins: 1, 2, 3

## RFTRF
designator TRF?
RF transformator MiniCircuits 6pin; Sort: 330; Tech: SMDR; Price: 0
footprint RFTRF-CD452
footprint AT224-1 (RF transformer 5pin)
footprint SM-22
pins: 1, 2, 3, 4, 5 hidden, 6

## RFTRF-ADT1-1WT
designator TRF?
RF transformator MiniCircuits 6pin; Sort: 330; Tech: SMDR; Manufacturer: *; Manufacturer No: *; Price: 0
footprint RFTRF-CD452
pins: 1, 2, 3, 4, 5 hidden, 6

## RFTRF_ADT1-1WT
designator TRF?, comment RFTRF-ADT1-1WT
RF transformator MiniCircuits 6pin; Sort: 330; Tech: SMDR; Manufacturer: *; Manufacturer No: *; Price: 0
footprint BH292 (RF Transformer 6 pin 7.1x7.9x5.7mm)
pins: 1, 2 hidden, 3, 4, 5, 6

## RFTRF_ADTL2-18+
designator TRF?, comment ADTL2-18+
RF transformer MiniCircuits; Comment2: 50 Ohm 30 to 1800MHz; Sort: 330; Tech: SMDR; Manufacturer: MiniCircuits; Manufacturer No: ADTL2-18+; Package: RF trf CD542
footprint RFTRF-CD452
pins: 1, 3, 4, 6

## RFTRF_BD0205F5050A00
designator TRF?, comment BD0205F5050A00
RF Balun 50R; Manufacturer: Anaren; Sort: 330; Tech: SMDR; Manufacturer No: BD0205F5050A00; Package: RF trf 1608; Price: 0
footprint RFTRF-1608-1 (RF balun 10pin)
pins: 1, 2, 3, 4, 5, 6, 7 dc, 8, 9, 10

## RFTRF_JTX-2-10T+
designator TRF?, comment JTX-2-10T+
RF transformer 50-1000MHz 75R; Manufacturer: MiniCircuits; Sort: 330; Tech: SMDR; Manufacturer No: JTX-2-10T+; Comment2: 50 - 1000MHz  75R; Package: BH292; Price: 7
footprint BH292 (RF Transformer 6 pin 7.1x7.9x5.7mm)
pins: 1, 2 hidden, 3, 4, 5, 6

## RFTRF_MABACT0039
designator TRF?, comment MABACT0039
RF balun  5pin; Manufacturer: Macom; Sort: 330; Tech: SMDR; Manufacturer No: MABACT0039; Package: RF trf SM-138; Price: 0
footprint RFTRF-SM-138 (RF balun 5pin)
pins: 1, 2 hidden, 3, 4, 5

## RFTRF_NCS2-222+
designator TRF?, comment NCS2-222+
RF transformer MiniCircuits; Comment2: 50 Ohm 1275 to 2200MHz; Sort: 330; Tech: SMDR; Manufacturer: MiniCircuits; Manufacturer No: NCS2-222+; Package: RF trf GE0805C-1
footprint RFTRF_GE0805C-1 (6pin)
pins: 1, 2, 3, 4, 5, 6

## RFTRF_NCS2-392+
designator TRF?, comment NCS2-392+
RF transformer MiniCircuits; Comment2: 50 Ohm 3000 to 3900MHz; Sort: 330; Tech: SMDR; Manufacturer: MiniCircuits; Manufacturer No: NCS2-392+; Package: RF trf GE0805C-1
footprint RFTRF_GE0805C-1 (6pin)
pins: 1, 2, 3, 4, 5, 6

## RFTRF_TC1-1-13
designator TRF?, comment TC1-1-13M+
RF transformer MiniCircuits  5pin; Sort: 330; Tech: SMDR; Manufacturer: MiniCircuits; Manufacturer No: TC1-1-13M+; Package: RF trf AT224; Price: 0
footprint RFTRF-AT224-1 (RF transformer 5pin)
pins: 1, 2, 3, 4, 6

## RFTRF_TC1-1T+
designator TRF?, comment TC1-1T+
RF transformer MiniCircuits  5pin; Sort: 330; Tech: SMDR; Manufacturer: MiniCircuits; Manufacturer No: TC1-1T+; Package: RF trf AT224; Price: 1.2
footprint RFTRF-AT224-1 (RF transformer 5pin)
pins: 1, 2, 3, 4, 6

## RFTRF_TC2-1T+
designator TRF?, comment TC2-1T+
RF transformer MiniCircuits  5pin; Sort: 330; Tech: SMDR; Manufacturer: MiniCircuits; Manufacturer No: TC2-1T+; Package: RF trf AT224; Price: 1.2
footprint RFTRF-AT224-1 (RF transformer 5pin)
pins: 1, 2, 3, 4, 6

## RFTRF_TC4-25+
designator TRF?, comment TC4-25+
RF transformer MiniCircuits; Comment2: 500 to 2500MHz; Sort: 330; Tech: SMDR; Manufacturer: MiniCircuits; Manufacturer No: TC4-25+; Package: RF trf AT224; Price: 1.2
footprint RFTRF-AT224-1 (RF transformer 5pin)
pins: 1, 2, 3, 4, 6

## RFTRF_TCN2-122+
designator TRF?, comment TCN2-122+
RF transformer MiniCircuits  6pin; Sort: 330; Tech: SMDR; Manufacturer: MiniCircuits; Manufacturer No: TCN2-122+; Package: RF trf TCN2-122; Price: 0
footprint RFTRF-TCN (RF transformer 6pin)
pins: 1, 2, 3, 4, 5, 6

## RFTRF_TCN4-162+
designator TRF?, comment TCN4-162+
RF transformer MiniCircuits  6pin; Comment2: 720 to 1600 MHz 50R; Sort: 330; Tech: SMDR; Manufacturer: MiniCircuits; Manufacturer No: TCN4-162+; Package: RF trf TCN4-162; Price: 0
footprint RFTRF-TCN (RF transformer 6pin)
pins: 1, 2, 3, 4, 5, 6

## RFTRF_WBC1-1
designator TRF?, comment WBC1-1LB
RF transformer Coilcraft 5 pin 1:1; 0.4-600MHz; Sort: 330; Tech: SMDR; Manufacturer: Coilcraft; Manufacturer No: WBC1-1LB; Price: 0
footprint WBC1-1 (RF transformer 5pin)
pins: 1, 2, 3, 4, 5 hidden, 6

## RFTRF_WBC1-1T
designator TRF?, comment WBC1-1TLB
RF transformer Coilcraft 5 pin 1:1; 0.25-750MHz; Sort: 330; Tech: SMDR; Manufacturer: Coilcraft; Manufacturer No: WBC1-1TLB; Package: RF Trf WBC1-1; Price: 0
footprint WBC1-1 (RF transformer 5pin)
pins: 1, 2, 3, 4, 5 hidden, 6

## RFTRF_WBC2-1
designator TRF?, comment WBC2-1TLB
RF transformer Coilcraft 5 pin 1:2;  0.2-500MHz; Sort: 330; Tech: SMDR; Manufacturer: Coilcraft; Manufacturer No: WBC2-1TLB; Package: RF trf WBC; Price: 0
footprint WBC1-1 (RF transformer 5pin)
pins: 1, 2, 3, 4, 5 hidden, 6

## RFTRF_WBC2-1T
designator TRF?, comment WBC2-1TLB
RF transformer Coilcraft 5 pin 1:2;  0.2-500MHz; Sort: 330; Tech: SMDR; Manufacturer: Coilcraft; Manufacturer No: WBC2-1TLB; Package: RF trf WBC; Price: 0
footprint WBC1-1 (RF transformer 5pin)
pins: 1, 2, 3, 4, 5 hidden, 6

## RFTRF_WBC4-1TL
designator TRF?, comment WBC4-1TLB
RF transformer Coilcraft 5 pin 1:4;  0.25-750MHz; Sort: 330; Tech: SMDR; Manufacturer: Coilcraft; Manufacturer No: WBC4-1TLB; Package: RF trf WBC; Price: 0
footprint WBC1-1 (RF transformer 5pin)
pins: 1, 2, 3, 4, 5 hidden, 6

## SP2.0
designator SP?  (value not drawn)  (no BOM)
Wire solder pin 2.0mm; Sort: 610; Tech: THDW; Price: 0
footprint SP1.5 (Test point 50mils)
pins: 1

## TRF-ETH_B78476A8065A003
designator TRF?, comment B78476A8065A003
Ethernet transfomer 10/100M; Manufacturer: Epcos, Farnell; Manufacturer No: B78476A8065A003, 1644268; Sort: 330; Tech: SMDR; Package: Trf Eth SO16; Price: 2.3
footprint SOIC16-N2 (Small IC 16 pin transformer)
pins: 1 TD+, 2 CT, 3 TD-, 5 hidden, 6 RD+, 7 CT, 8 RD-, 9 RX-, 10 CT, 11 RX+, 14 TX-, 15 CT, 16 TX+
text: 1CT:1CT

## TRFETH100M1
designator TRF?, comment TG110-S050N2
Ethernet transfomer 10/100M; Manufacturer: Halo Electronics Inc; Sort: 330; Tech: SMDR; Manufacturer No: TG110-S050N2; Price: 0
footprint SOIC16-N2 (Small IC 16 pin transformer)
pins: 1, 2, 3, 4, 5 hidden, 5, 6, 7, 8, 9, 10, 11, 12, 13, 14, 15, 16

## XT-CSTCE10M
designator X?, comment CSTCE-G
Crystal Oscillator; Manufacturer: Murata; Manufacturer No: CSTCE10M0GA52; Comment2: 10.0MHz; Sort: 380; Tech: SMDR; Price: 0
simulation model XTAL (Spice Subcircuit)
footprint Q-CSTCE-G (Quartz resonator CSTCE-G 3.2x1.3X0.8mm)
pins: 1 XT1, 2 GND, 3 XT2

## XTAL
designator X?
Crystal Oscillator; Sort: 380; Tech: SMDR; Price: 0
footprint R38 (Crystal, Thru-Hole; 2 Leads; Body 3.1 x 8.2 mm (Dia.xH))
simulation model XTAL (Spice Subcircuit)
pins: 1 OSC1, 2 OSC2

## XTAL12MHZ-5X3.2
designator X?, comment 12.000MHz
Quartz crystal smd 5x3.2mm; Manufacturer: Farnell, Digikey, Digikey; Manufacturer No: 1538840, 300-8197-1-ND, CTX639CT-ND; Comment2: +-30ppm; Sort: 380; Tech: SMDR; Package: Crystal 5x3.2mm; Price: 0
simulation model XTAL (Spice Subcircuit)
footprint Model Name (Footprint not found)
footprint Q-5x3.2 (Quartz crystal 5x3.2x0.8mm)
pins: 1 OSC1, 3 OSC2

## XTAL12MHZ-JXS53
designator X?, comment 12MHz
Quartz crystal smd; Manufacturer: Jauch; Manufacturer No: Q12.0-JXS53-12-30/30-FU; Sort: 380; Tech: SMDR; Price: 0
simulation model XTAL (Spice Subcircuit)
footprint Model Name (Footprint not found)
footprint Q-JXS53 (Quartz crystal 5x3.2x0.8mm)
pins: 1 OSC1, 3 OSC2

## XTAL12MHZLP
designator X?, comment 12MHz
Quartz crystal 12MHz; Manufacturer: Jauch; Manufacturer No: Q12MHz-SMU4; Sort: 380; Tech: SMDR; Price: 0
simulation model XTAL (Spice Subcircuit)
footprint Q-SMU4 (Quartz crystal 12.5x4.8x4mm)
pins: 1 OSC1, 2 OSC2

## XTAL24MHZ-5X3.2
designator X?, comment 24.000MHz
Quartz crystal smd 5x3.2mm; Manufacturer: Farnell, Digikey; Manufacturer No: 1640934, 631-1026-1-ND; Comment2: +-30ppm; Sort: 380; Tech: SMDR; Package: Crystal 5x3.2mm; Price: 0
simulation model XTAL (Spice Subcircuit)
footprint Model Name (Footprint not found)
footprint Q-5x3.2 (Quartz crystal 5x3.2x0.8mm)
pins: 1 OSC1, 3 OSC2

## XTAL25MHZ-5X3.2
designator X?, comment 25.000MHz
Quartz crystal smd 5x3.2mm; Manufacturer: Farnell, Digikey, Digikey; Manufacturer No: 1538850, 300-8218-1-ND, CTX652CT-ND; Comment2: +-30ppm; Sort: 380; Tech: SMDR; Package: Crystal 5x3.2mm; Price: 0
simulation model XTAL (Spice Subcircuit)
footprint Model Name (Footprint not found)
footprint Q-5x3.2 (Quartz crystal 5x3.2x0.8mm)
pins: 1 OSC1, 3 OSC2

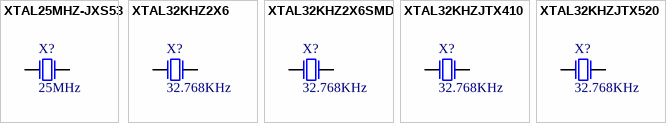
[diagram p3: symbols XTAL25MHZ-JXS53 to XTAL32KHZJTX520]

## XTAL25MHZ-JXS53
designator X?, comment 25MHz
Quartz crystal smd; Manufacturer: Jauch; Manufacturer No: Q25.0-JXS53-12-30/30-FU; Sort: 380; Tech: SMDR; Price: 0
simulation model XTAL (Spice Subcircuit)
footprint Model Name (Footprint not found)
footprint Q-JXS53 (Quartz crystal 5x3.2x0.8mm)
pins: 1 OSC1, 3 OSC2

## XTAL32KHZ2X6
designator X?, comment 32.768KHz
Quartz crystal 32.768KHz; Manufacturer: Jauch; Manufacturer No: Q0.032768MHz-MMTF32; Sort: 380; Tech: SMDR; Price: 0
simulation model XTAL (Spice Subcircuit)
footprint MMTF32
pins: 1 OSC1, 2 OSC2

## XTAL32KHZ2X6SMD
designator X?, comment 32.768KHz
Quartz crystal 32.768KHz SMD; Manufacturer: MicroCrystal, Farnell; Manufacturer No: MS1V-T1K 32.768KHZ +-20PPM 12.5PF, 1539359; Sort: 380; Tech: SMDR; Package: XTAL 2X6SMD; Price: 0
simulation model XTAL (Spice Subcircuit)
footprint Q-2X6SMD (Quartz D2x6mm SMD)
pins: 1 OSC1, 2 OSC2, 3 hidden to GND

## XTAL32KHZJTX410
designator X?, comment 32.768KHz
Quartz crystal 32.768KHz; Manufacturer: Jauch; Manufacturer No: Q0.032768-JTX410-12.5-30-T1; Sort: 380; Tech: SMDR; Price: 0
simulation model XTAL (Spice Subcircuit)
pins: 1 OSC1, 2 OSC2

## XTAL32KHZJTX520
designator X?, comment 32.768KHz
Quartz crystal 32.768KHz; Manufacturer: Jauch; Manufacturer No: Q0.032768-JTX520-12.5-30; Sort: 380; Tech: SMDR; Price: 0
simulation model XTAL (Spice Subcircuit)
footprint Q-JTX520 (Quartz crystal JTX520 4.8x1.9x0.8mm)
pins: 1 OSC1, 2 OSC2